# Altium footprint library Connector_PinSocket_2.54mm.PcbLib: 278 footprints (part 9 of 18)
Each footprint in its own frame and in the unit in brackets; x right, y up, seen from the top. Pads: shape width x height; smd on the part's side, far side on the other; paste and mask are expansions set on the pad; w line width, h text height; cw(c..) or ccw(c..) is an arc to the next point about the centre after c.
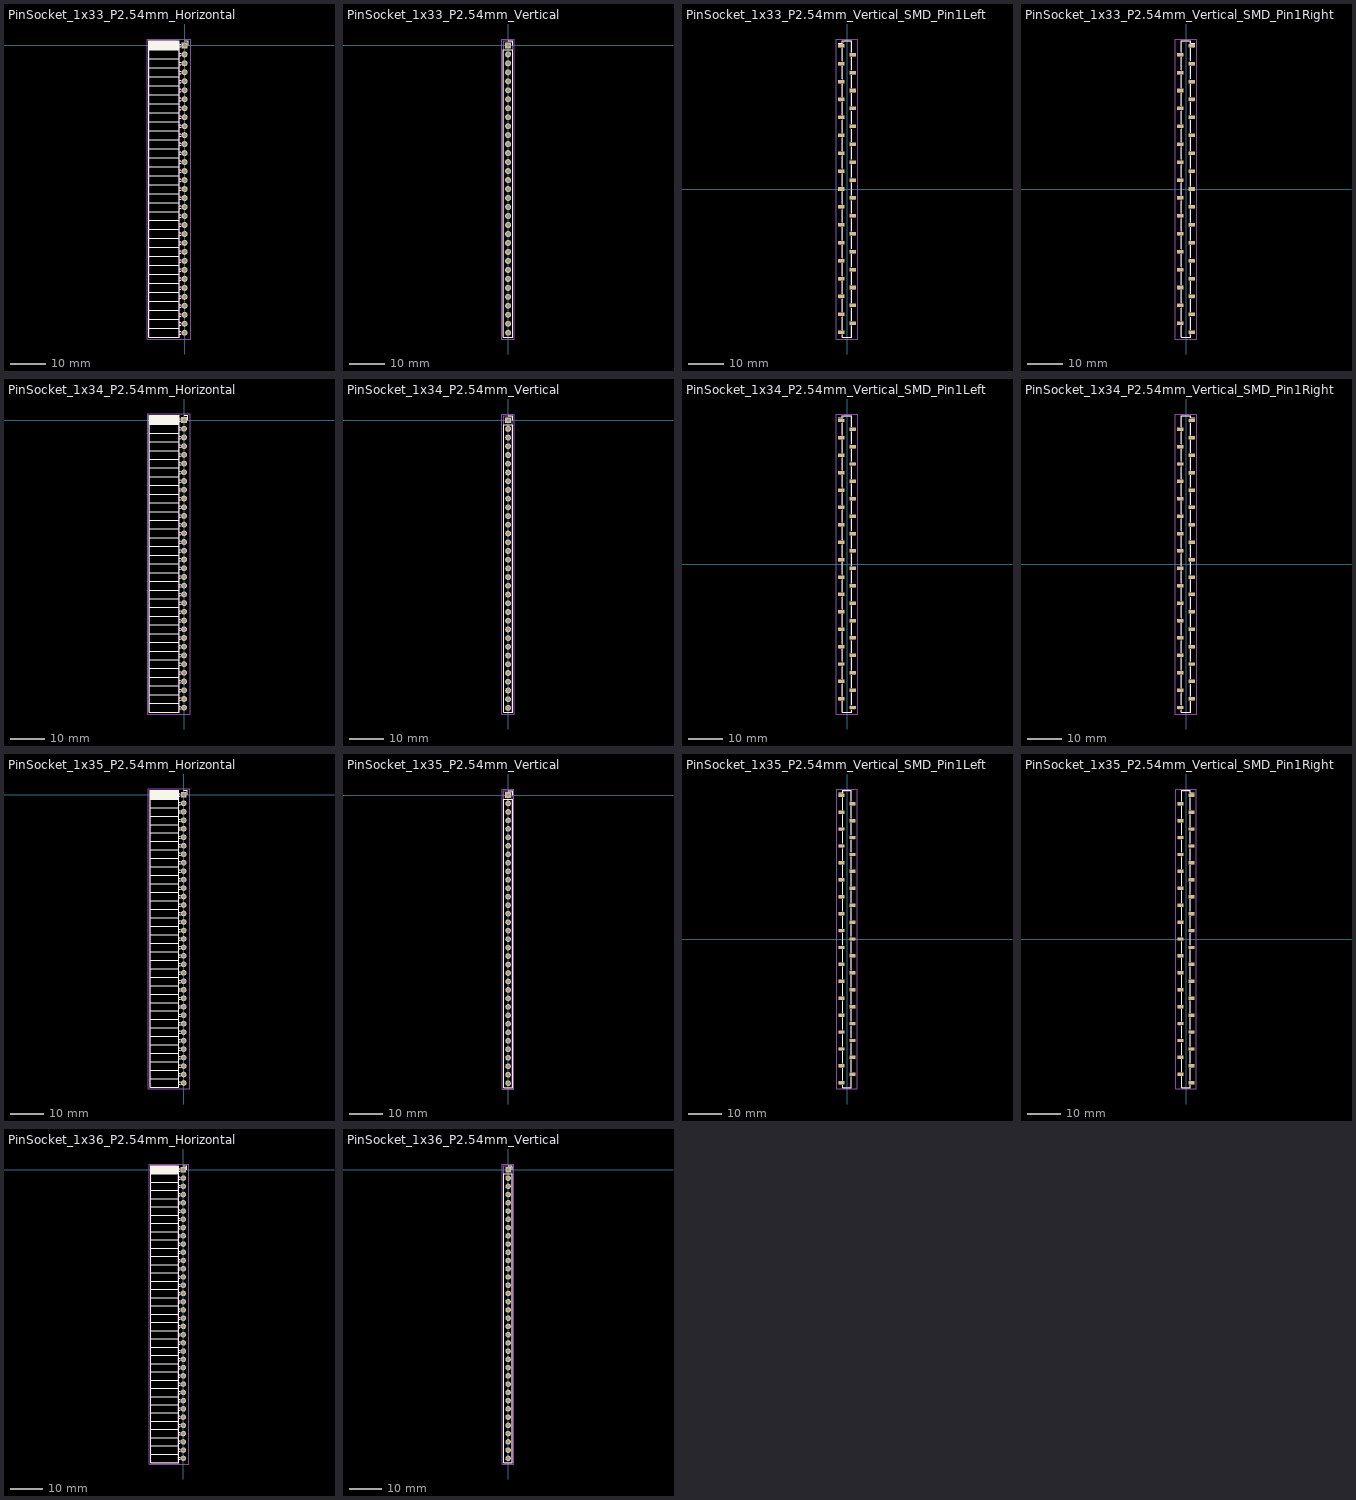
[diagram p8: the footprints below, top view; thin cyan lines are the x and y axes]

## PinSocket_1x33_P2.54mm_Horizontal [mm]
pads (33):
  rect 1.7x1.7 hole 1: 1(0,0)
  round 1.7 hole 1: 2(0,-2.54) 3(0,-5.08) 4(0,-7.62) 5(0,-10.16) 6(0,-12.7) 7(0,-15.24) 8(0,-17.78) 9(0,-20.32) 10(0,-22.86) 11(0,-25.4) 12(0,-27.94) 13(0,-30.48) 14(0,-33.02) 15(0,-35.56) 16(0,-38.1) 17(0,-40.64) 18(0,-43.18) 19(0,-45.72) 20(0,-48.26) 21(0,-50.8) 22(0,-53.34) 23(0,-55.88) 24(0,-58.42) 25(0,-60.96) 26(0,-63.5) 27(0,-66.04) 28(0,-68.58) 29(0,-71.12) 30(0,-73.66) 31(0,-76.2) 32(0,-78.74) 33(0,-81.28)
F.SilkS:
  lines w0.254: -10.09,-80.01 -1.46,-80.01 ; -10.09,-77.47 -1.46,-77.47 ; -10.09,-74.93 -1.46,-74.93 ; -10.09,-72.39 -1.46,-72.39 ; -10.09,-69.85 -1.46,-69.85 ; -10.09,-67.31 -1.46,-67.31 ; -10.09,-64.77 -1.46,-64.77 ; -10.09,-62.23 -1.46,-62.23 ; -10.09,-59.69 -1.46,-59.69 ; -10.09,-57.15 -1.46,-57.15 ; -10.09,-54.61 -1.46,-54.61 ; -10.09,-52.07 -1.46,-52.07 ; -10.09,-49.53 -1.46,-49.53 ; -10.09,-46.99 -1.46,-46.99 ; -10.09,-44.45 -1.46,-44.45 ; -10.09,-41.91 -1.46,-41.91 ; -10.09,-39.37 -1.46,-39.37 ; -10.09,-36.83 -1.46,-36.83 ; -10.09,-34.29 -1.46,-34.29 ; -10.09,-31.75 -1.46,-31.75 ; -10.09,-29.21 -1.46,-29.21 ; -10.09,-26.67 -1.46,-26.67 ; -10.09,-24.13 -1.46,-24.13 ; -10.09,-21.59 -1.46,-21.59 ; -10.09,-19.05 -1.46,-19.05 ; -10.09,-16.51 -1.46,-16.51 ; -10.09,-13.97 -1.46,-13.97 ; -10.09,-11.43 -1.46,-11.43 ; -10.09,-8.89 -1.46,-8.89 ; -10.09,-6.35 -1.46,-6.35 ; -10.09,-3.81 -1.46,-3.81 ; -10.09,-1.27 -1.46,-1.27 ; -10.09,-1.152 -1.46,-1.152 ; -10.09,-1.034 -1.46,-1.034 ; -10.09,-0.916 -1.46,-0.916 ; -10.09,-0.798 -1.46,-0.798 ; -10.09,-0.68 -1.46,-0.68 ; -10.09,-0.561 -1.46,-0.561 ; -10.09,-0.443 -1.46,-0.443 ; -10.09,-0.325 -1.46,-0.325 ; -10.09,-0.207 -1.46,-0.207 ; -10.09,-0.089 -1.46,-0.089 ; -10.09,0.029 -1.46,0.029 ; -10.09,0.147 -1.46,0.147 ; -10.09,0.265 -1.46,0.265 ; -10.09,0.383 -1.46,0.383 ; -10.09,0.501 -1.46,0.501 ; -10.09,0.62 -1.46,0.62 ; -10.09,0.738 -1.46,0.738 ; -10.09,0.856 -1.46,0.856 ; -10.09,0.974 -1.46,0.974 ; -10.09,1.092 -1.46,1.092 ; -10.09,1.21 -1.46,1.21 ; -1.46,-81.64 -1.05,-81.64 ; -1.46,-80.92 -1.05,-80.92 ; -1.46,-79.1 -1.05,-79.1 ; -1.46,-78.38 -1.05,-78.38 ; -1.46,-76.56 -1.05,-76.56 ; -1.46,-75.84 -1.05,-75.84 ; -1.46,-74.02 -1.05,-74.02 ; -1.46,-73.3 -1.05,-73.3 ; -1.46,-71.48 -1.05,-71.48 ; -1.46,-70.76 -1.05,-70.76 ; -1.46,-68.94 -1.05,-68.94 ; -1.46,-68.22 -1.05,-68.22 ; -1.46,-66.4 -1.05,-66.4 ; -1.46,-65.68 -1.05,-65.68 ; -1.46,-63.86 -1.05,-63.86 ; -1.46,-63.14 -1.05,-63.14 ; -1.46,-61.32 -1.05,-61.32 ; -1.46,-60.6 -1.05,-60.6 ; -1.46,-58.78 -1.05,-58.78 ; -1.46,-58.06 -1.05,-58.06 ; -1.46,-56.24 -1.05,-56.24 ; -1.46,-55.52 -1.05,-55.52 ; -1.46,-53.7 -1.05,-53.7 ; -1.46,-52.98 -1.05,-52.98 ; -1.46,-51.16 -1.05,-51.16 ; -1.46,-50.44 -1.05,-50.44 ; -1.46,-48.62 -1.05,-48.62 ; -1.46,-47.9 -1.05,-47.9 ; -1.46,-46.08 -1.05,-46.08 ; -1.46,-45.36 -1.05,-45.36 ; -1.46,-43.54 -1.05,-43.54 ; -1.46,-42.82 -1.05,-42.82 ; -1.46,-41 -1.05,-41 ; -1.46,-40.28 -1.05,-40.28 ; -1.46,-38.46 -1.05,-38.46 ; -1.46,-37.74 -1.05,-37.74 ; -1.46,-35.92 -1.05,-35.92 ; -1.46,-35.2 -1.05,-35.2 ; -1.46,-33.38 -1.05,-33.38 ; -1.46,-32.66 -1.05,-32.66 ; -1.46,-30.84 -1.05,-30.84 ; -1.46,-30.12 -1.05,-30.12 ; -1.46,-28.3 -1.05,-28.3 ; -1.46,-27.58 -1.05,-27.58 ; -1.46,-25.76 -1.05,-25.76 ; -1.46,-25.04 -1.05,-25.04 ; -1.46,-23.22 -1.05,-23.22 ; -1.46,-22.5 -1.05,-22.5 ; -1.46,-20.68 -1.05,-20.68 ; -1.46,-19.96 -1.05,-19.96 ; -1.46,-18.14 -1.05,-18.14 ; -1.46,-17.42 -1.05,-17.42 ; -1.46,-15.6 -1.05,-15.6 ; -1.46,-14.88 -1.05,-14.88 ; -1.46,-13.06 -1.05,-13.06 ; -1.46,-12.34 -1.05,-12.34 ; -1.46,-10.52 -1.05,-10.52 ; -1.46,-9.8 -1.05,-9.8 ; -1.46,-7.98 -1.05,-7.98 ; -1.46,-7.26 -1.05,-7.26 ; -1.46,-5.44 -1.05,-5.44 ; -1.46,-4.72 -1.05,-4.72 ; -1.46,-2.9 -1.05,-2.9 ; -1.46,-2.18 -1.05,-2.18 ; -1.46,-0.36 -1.11,-0.36 ; -1.46,0.36 -1.11,0.36 ; 0,1.33 1.11,1.33 1.11,0 ; -10.09,-82.61 -1.46,-82.61 -1.46,1.33 -10.09,1.33 -10.09,-82.61
Top Assembly:
  lines w0.254: -1.52,-81.58 0,-81.58 0,-80.98 -1.52,-80.98 ; -1.52,-79.04 0,-79.04 0,-78.44 -1.52,-78.44 ; -1.52,-76.5 0,-76.5 0,-75.9 -1.52,-75.9 ; -1.52,-73.96 0,-73.96 0,-73.36 -1.52,-73.36 ; -1.52,-71.42 0,-71.42 0,-70.82 -1.52,-70.82 ; -1.52,-68.88 0,-68.88 0,-68.28 -1.52,-68.28 ; -1.52,-66.34 0,-66.34 0,-65.74 -1.52,-65.74 ; -1.52,-63.8 0,-63.8 0,-63.2 -1.52,-63.2 ; -1.52,-61.26 0,-61.26 0,-60.66 -1.52,-60.66 ; -1.52,-58.72 0,-58.72 0,-58.12 -1.52,-58.12 ; -1.52,-56.18 0,-56.18 0,-55.58 -1.52,-55.58 ; -1.52,-53.64 0,-53.64 0,-53.04 -1.52,-53.04 ; -1.52,-51.1 0,-51.1 0,-50.5 -1.52,-50.5 ; -1.52,-48.56 0,-48.56 0,-47.96 -1.52,-47.96 ; -1.52,-46.02 0,-46.02 0,-45.42 -1.52,-45.42 ; -1.52,-43.48 0,-43.48 0,-42.88 -1.52,-42.88 ; -1.52,-40.94 0,-40.94 0,-40.34 -1.52,-40.34 ; -1.52,-38.4 0,-38.4 0,-37.8 -1.52,-37.8 ; -1.52,-35.86 0,-35.86 0,-35.26 -1.52,-35.26 ; -1.52,-33.32 0,-33.32 0,-32.72 -1.52,-32.72 ; -1.52,-30.78 0,-30.78 0,-30.18 -1.52,-30.18 ; -1.52,-28.24 0,-28.24 0,-27.64 -1.52,-27.64 ; -1.52,-25.7 0,-25.7 0,-25.1 -1.52,-25.1 ; -1.52,-23.16 0,-23.16 0,-22.56 -1.52,-22.56 ; -1.52,-20.62 0,-20.62 0,-20.02 -1.52,-20.02 ; -1.52,-18.08 0,-18.08 0,-17.48 -1.52,-17.48 ; -1.52,-15.54 0,-15.54 0,-14.94 -1.52,-14.94 ; -1.52,-13 0,-13 0,-12.4 -1.52,-12.4 ; -1.52,-10.46 0,-10.46 0,-9.86 -1.52,-9.86 ; -1.52,-7.92 0,-7.92 0,-7.32 -1.52,-7.32 ; -1.52,-5.38 0,-5.38 0,-4.78 -1.52,-4.78 ; -1.52,-2.84 0,-2.84 0,-2.24 -1.52,-2.24 ; -1.52,-0.3 0,-0.3 0,0.3 -1.52,0.3 ; -1.52,0.3 -1.52,-82.55 -10.03,-82.55 -10.03,1.27 -2.49,1.27 -1.52,0.3
  text "'.Designator'" at -4.935,-44.687 h1
Top Courtyard:
  lines w0.254: -10.55,-83.05 1.75,-83.05 1.75,1.8 -10.55,1.8 -10.55,-83.05
Top Designator:
  text ".Designator" at -12.018,-41.133 h1.52

## PinSocket_1x33_P2.54mm_Vertical [mm]
pads (33):
  rect 1.7x1.7 hole 1: 1(0,0)
  round 1.7 hole 1: 2(0,-2.54) 3(0,-5.08) 4(0,-7.62) 5(0,-10.16) 6(0,-12.7) 7(0,-15.24) 8(0,-17.78) 9(0,-20.32) 10(0,-22.86) 11(0,-25.4) 12(0,-27.94) 13(0,-30.48) 14(0,-33.02) 15(0,-35.56) 16(0,-38.1) 17(0,-40.64) 18(0,-43.18) 19(0,-45.72) 20(0,-48.26) 21(0,-50.8) 22(0,-53.34) 23(0,-55.88) 24(0,-58.42) 25(0,-60.96) 26(0,-63.5) 27(0,-66.04) 28(0,-68.58) 29(0,-71.12) 30(0,-73.66) 31(0,-76.2) 32(0,-78.74) 33(0,-81.28)
F.SilkS:
  lines w0.254: 0,1.33 1.33,1.33 1.33,0 ; -1.33,-82.61 1.33,-82.61 1.33,-1.27 -1.33,-1.27 -1.33,-82.61
Top Assembly:
  lines w0.254: -1.27,-82.55 1.27,-82.55 1.27,0.635 0.635,1.27 -1.27,1.27 -1.27,-82.55
  text "'.Designator'" at 0.84,-44.687 h1
Top Courtyard:
  lines w0.254: -1.8,-83.05 1.75,-83.05 1.75,1.8 -1.8,1.8 -1.8,-83.05
Top Designator:
  text ".Designator" at -7.643,-41.133 h1.52

## PinSocket_1x33_P2.54mm_Vertical_SMD_Pin1Left [mm]
pads (33):
  rect 1.9x1 smd: 1(-1.65,40.64) 2(1.65,38.1) 3(-1.65,35.56) 4(1.65,33.02) 5(-1.65,30.48) 6(1.65,27.94) 7(-1.65,25.4) 8(1.65,22.86) 9(-1.65,20.32) 10(1.65,17.78) 11(-1.65,15.24) 12(1.65,12.7) 13(-1.65,10.16) 14(1.65,7.62) 15(-1.65,5.08) 16(1.65,2.54) 17(-1.65,0) 18(1.65,-2.54) 19(-1.65,-5.08) 20(1.65,-7.62) 21(-1.65,-10.16) 22(1.65,-12.7) 23(-1.65,-15.24) 24(1.65,-17.78) 25(-1.65,-20.32) 26(1.65,-22.86) 27(-1.65,-25.4) 28(1.65,-27.94) 29(-1.65,-30.48) 30(1.65,-33.02) 31(-1.65,-35.56) 32(1.65,-38.1) 33(-1.65,-40.64)
F.SilkS:
  lines w0.254: -2.54,41.4 -1.33,41.4 -1.33,42.07 1.33,42.07 1.33,38.86 ; -1.33,-41.4 -1.33,-42.07 1.33,-42.07 1.33,-38.86 ; -1.33,-39.88 -1.33,-36.32 ; -1.33,-34.8 -1.33,-31.24 ; -1.33,-29.72 -1.33,-26.16 ; -1.33,-24.64 -1.33,-21.08 ; -1.33,-19.56 -1.33,-16 ; -1.33,-14.48 -1.33,-10.92 ; -1.33,-9.4 -1.33,-5.84 ; -1.33,-4.32 -1.33,-0.76 ; -1.33,0.76 -1.33,4.32 ; -1.33,5.84 -1.33,9.4 ; -1.33,10.92 -1.33,14.48 ; -1.33,16 -1.33,19.56 ; -1.33,21.08 -1.33,24.64 ; -1.33,26.16 -1.33,29.72 ; -1.33,31.24 -1.33,34.8 ; -1.33,36.32 -1.33,39.88 ; 1.33,-37.34 1.33,-33.78 ; 1.33,-32.26 1.33,-28.7 ; 1.33,-27.18 1.33,-23.62 ; 1.33,-22.1 1.33,-18.54 ; 1.33,-17.02 1.33,-13.46 ; 1.33,-11.94 1.33,-8.38 ; 1.33,-6.86 1.33,-3.3 ; 1.33,-1.78 1.33,1.78 ; 1.33,3.3 1.33,6.86 ; 1.33,8.38 1.33,11.94 ; 1.33,13.46 1.33,17.02 ; 1.33,18.54 1.33,22.1 ; 1.33,23.62 1.33,27.18 ; 1.33,28.7 1.33,32.26 ; 1.33,33.78 1.33,37.34
Top Assembly:
  lines w0.254: -1.27,-40.94 -2.27,-40.94 -2.27,-40.34 -1.27,-40.34 ; -1.27,-35.86 -2.27,-35.86 -2.27,-35.26 -1.27,-35.26 ; -1.27,-30.78 -2.27,-30.78 -2.27,-30.18 -1.27,-30.18 ; -1.27,-25.7 -2.27,-25.7 -2.27,-25.1 -1.27,-25.1 ; -1.27,-20.62 -2.27,-20.62 -2.27,-20.02 -1.27,-20.02 ; -1.27,-15.54 -2.27,-15.54 -2.27,-14.94 -1.27,-14.94 ; -1.27,-10.46 -2.27,-10.46 -2.27,-9.86 -1.27,-9.86 ; -1.27,-5.38 -2.27,-5.38 -2.27,-4.78 -1.27,-4.78 ; -1.27,-0.3 -2.27,-0.3 -2.27,0.3 -1.27,0.3 ; -1.27,4.78 -2.27,4.78 -2.27,5.38 -1.27,5.38 ; -1.27,9.86 -2.27,9.86 -2.27,10.46 -1.27,10.46 ; -1.27,14.94 -2.27,14.94 -2.27,15.54 -1.27,15.54 ; -1.27,20.02 -2.27,20.02 -2.27,20.62 -1.27,20.62 ; -1.27,25.1 -2.27,25.1 -2.27,25.7 -1.27,25.7 ; -1.27,30.18 -2.27,30.18 -2.27,30.78 -1.27,30.78 ; -1.27,35.26 -2.27,35.26 -2.27,35.86 -1.27,35.86 ; -1.27,40.34 -2.27,40.34 -2.27,40.94 -1.27,40.94 ; 1.27,-38.4 2.27,-38.4 2.27,-37.8 1.27,-37.8 ; 1.27,-33.32 2.27,-33.32 2.27,-32.72 1.27,-32.72 ; 1.27,-28.24 2.27,-28.24 2.27,-27.64 1.27,-27.64 ; 1.27,-23.16 2.27,-23.16 2.27,-22.56 1.27,-22.56 ; 1.27,-18.08 2.27,-18.08 2.27,-17.48 1.27,-17.48 ; 1.27,-13 2.27,-13 2.27,-12.4 1.27,-12.4 ; 1.27,-7.92 2.27,-7.92 2.27,-7.32 1.27,-7.32 ; 1.27,-2.84 2.27,-2.84 2.27,-2.24 1.27,-2.24 ; 1.27,2.24 2.27,2.24 2.27,2.84 1.27,2.84 ; 1.27,7.32 2.27,7.32 2.27,7.92 1.27,7.92 ; 1.27,12.4 2.27,12.4 2.27,13 1.27,13 ; 1.27,17.48 2.27,17.48 2.27,18.08 1.27,18.08 ; 1.27,22.56 2.27,22.56 2.27,23.16 1.27,23.16 ; 1.27,27.64 2.27,27.64 2.27,28.24 1.27,28.24 ; 1.27,32.72 2.27,32.72 2.27,33.32 1.27,33.32 ; 1.27,37.8 2.27,37.8 2.27,38.4 1.27,38.4 ; -1.27,-42.01 1.27,-42.01 1.27,42.01 -0.635,42.01 -1.27,41.375 -1.27,-42.01
  text "'.Designator'" at 0.84,-4.047 h1
Top Courtyard:
  lines w0.254: -3.1,-42.55 3.1,-42.55 3.1,42.55 -3.1,42.55 -3.1,-42.55
Top Designator:
  text ".Designator" at -7.618,-0.508 h1.52

## PinSocket_1x33_P2.54mm_Vertical_SMD_Pin1Right [mm]
pads (33):
  rect 1.9x1 smd: 1(1.65,40.64) 2(-1.65,38.1) 3(1.65,35.56) 4(-1.65,33.02) 5(1.65,30.48) 6(-1.65,27.94) 7(1.65,25.4) 8(-1.65,22.86) 9(1.65,20.32) 10(-1.65,17.78) 11(1.65,15.24) 12(-1.65,12.7) 13(1.65,10.16) 14(-1.65,7.62) 15(1.65,5.08) 16(-1.65,2.54) 17(1.65,0) 18(-1.65,-2.54) 19(1.65,-5.08) 20(-1.65,-7.62) 21(1.65,-10.16) 22(-1.65,-12.7) 23(1.65,-15.24) 24(-1.65,-17.78) 25(1.65,-20.32) 26(-1.65,-22.86) 27(1.65,-25.4) 28(-1.65,-27.94) 29(1.65,-30.48) 30(-1.65,-33.02) 31(1.65,-35.56) 32(-1.65,-38.1) 33(1.65,-40.64)
F.SilkS:
  lines w0.254: -1.33,-38.86 -1.33,-42.07 1.33,-42.07 1.33,-41.4 ; -1.33,-37.34 -1.33,-33.78 ; -1.33,-32.26 -1.33,-28.7 ; -1.33,-27.18 -1.33,-23.62 ; -1.33,-22.1 -1.33,-18.54 ; -1.33,-17.02 -1.33,-13.46 ; -1.33,-11.94 -1.33,-8.38 ; -1.33,-6.86 -1.33,-3.3 ; -1.33,-1.78 -1.33,1.78 ; -1.33,3.3 -1.33,6.86 ; -1.33,8.38 -1.33,11.94 ; -1.33,13.46 -1.33,17.02 ; -1.33,18.54 -1.33,22.1 ; -1.33,23.62 -1.33,27.18 ; -1.33,28.7 -1.33,32.26 ; -1.33,33.78 -1.33,37.34 ; -1.33,38.86 -1.33,42.07 1.33,42.07 1.33,41.4 2.54,41.4 ; 1.33,-39.88 1.33,-36.32 ; 1.33,-34.8 1.33,-31.24 ; 1.33,-29.72 1.33,-26.16 ; 1.33,-24.64 1.33,-21.08 ; 1.33,-19.56 1.33,-16 ; 1.33,-14.48 1.33,-10.92 ; 1.33,-9.4 1.33,-5.84 ; 1.33,-4.32 1.33,-0.76 ; 1.33,0.76 1.33,4.32 ; 1.33,5.84 1.33,9.4 ; 1.33,10.92 1.33,14.48 ; 1.33,16 1.33,19.56 ; 1.33,21.08 1.33,24.64 ; 1.33,26.16 1.33,29.72 ; 1.33,31.24 1.33,34.8 ; 1.33,36.32 1.33,39.88
Top Assembly:
  lines w0.254: -1.27,-38.4 -2.27,-38.4 -2.27,-37.8 -1.27,-37.8 ; -1.27,-33.32 -2.27,-33.32 -2.27,-32.72 -1.27,-32.72 ; -1.27,-28.24 -2.27,-28.24 -2.27,-27.64 -1.27,-27.64 ; -1.27,-23.16 -2.27,-23.16 -2.27,-22.56 -1.27,-22.56 ; -1.27,-18.08 -2.27,-18.08 -2.27,-17.48 -1.27,-17.48 ; -1.27,-13 -2.27,-13 -2.27,-12.4 -1.27,-12.4 ; -1.27,-7.92 -2.27,-7.92 -2.27,-7.32 -1.27,-7.32 ; -1.27,-2.84 -2.27,-2.84 -2.27,-2.24 -1.27,-2.24 ; -1.27,2.24 -2.27,2.24 -2.27,2.84 -1.27,2.84 ; -1.27,7.32 -2.27,7.32 -2.27,7.92 -1.27,7.92 ; -1.27,12.4 -2.27,12.4 -2.27,13 -1.27,13 ; -1.27,17.48 -2.27,17.48 -2.27,18.08 -1.27,18.08 ; -1.27,22.56 -2.27,22.56 -2.27,23.16 -1.27,23.16 ; -1.27,27.64 -2.27,27.64 -2.27,28.24 -1.27,28.24 ; -1.27,32.72 -2.27,32.72 -2.27,33.32 -1.27,33.32 ; -1.27,37.8 -2.27,37.8 -2.27,38.4 -1.27,38.4 ; 1.27,-40.94 2.27,-40.94 2.27,-40.34 1.27,-40.34 ; 1.27,-35.86 2.27,-35.86 2.27,-35.26 1.27,-35.26 ; 1.27,-30.78 2.27,-30.78 2.27,-30.18 1.27,-30.18 ; 1.27,-25.7 2.27,-25.7 2.27,-25.1 1.27,-25.1 ; 1.27,-20.62 2.27,-20.62 2.27,-20.02 1.27,-20.02 ; 1.27,-15.54 2.27,-15.54 2.27,-14.94 1.27,-14.94 ; 1.27,-10.46 2.27,-10.46 2.27,-9.86 1.27,-9.86 ; 1.27,-5.38 2.27,-5.38 2.27,-4.78 1.27,-4.78 ; 1.27,-0.3 2.27,-0.3 2.27,0.3 1.27,0.3 ; 1.27,4.78 2.27,4.78 2.27,5.38 1.27,5.38 ; 1.27,9.86 2.27,9.86 2.27,10.46 1.27,10.46 ; 1.27,14.94 2.27,14.94 2.27,15.54 1.27,15.54 ; 1.27,20.02 2.27,20.02 2.27,20.62 1.27,20.62 ; 1.27,25.1 2.27,25.1 2.27,25.7 1.27,25.7 ; 1.27,30.18 2.27,30.18 2.27,30.78 1.27,30.78 ; 1.27,35.26 2.27,35.26 2.27,35.86 1.27,35.86 ; 1.27,40.34 2.27,40.34 2.27,40.94 1.27,40.94 ; -1.27,-42.01 1.27,-42.01 1.27,41.375 0.635,42.01 -1.27,42.01 -1.27,-42.01
  text "'.Designator'" at 0.84,-4.047 h1
Top Courtyard:
  lines w0.254: -3.1,-42.55 3.1,-42.55 3.1,42.55 -3.1,42.55 -3.1,-42.55
Top Designator:
  text ".Designator" at -7.618,-0.508 h1.52

## PinSocket_1x34_P2.54mm_Horizontal [mm]
pads (34):
  rect 1.7x1.7 hole 1: 1(0,0)
  round 1.7 hole 1: 2(0,-2.54) 3(0,-5.08) 4(0,-7.62) 5(0,-10.16) 6(0,-12.7) 7(0,-15.24) 8(0,-17.78) 9(0,-20.32) 10(0,-22.86) 11(0,-25.4) 12(0,-27.94) 13(0,-30.48) 14(0,-33.02) 15(0,-35.56) 16(0,-38.1) 17(0,-40.64) 18(0,-43.18) 19(0,-45.72) 20(0,-48.26) 21(0,-50.8) 22(0,-53.34) 23(0,-55.88) 24(0,-58.42) 25(0,-60.96) 26(0,-63.5) 27(0,-66.04) 28(0,-68.58) 29(0,-71.12) 30(0,-73.66) 31(0,-76.2) 32(0,-78.74) 33(0,-81.28) 34(0,-83.82)
F.SilkS:
  lines w0.254: -10.09,-82.55 -1.46,-82.55 ; -10.09,-80.01 -1.46,-80.01 ; -10.09,-77.47 -1.46,-77.47 ; -10.09,-74.93 -1.46,-74.93 ; -10.09,-72.39 -1.46,-72.39 ; -10.09,-69.85 -1.46,-69.85 ; -10.09,-67.31 -1.46,-67.31 ; -10.09,-64.77 -1.46,-64.77 ; -10.09,-62.23 -1.46,-62.23 ; -10.09,-59.69 -1.46,-59.69 ; -10.09,-57.15 -1.46,-57.15 ; -10.09,-54.61 -1.46,-54.61 ; -10.09,-52.07 -1.46,-52.07 ; -10.09,-49.53 -1.46,-49.53 ; -10.09,-46.99 -1.46,-46.99 ; -10.09,-44.45 -1.46,-44.45 ; -10.09,-41.91 -1.46,-41.91 ; -10.09,-39.37 -1.46,-39.37 ; -10.09,-36.83 -1.46,-36.83 ; -10.09,-34.29 -1.46,-34.29 ; -10.09,-31.75 -1.46,-31.75 ; -10.09,-29.21 -1.46,-29.21 ; -10.09,-26.67 -1.46,-26.67 ; -10.09,-24.13 -1.46,-24.13 ; -10.09,-21.59 -1.46,-21.59 ; -10.09,-19.05 -1.46,-19.05 ; -10.09,-16.51 -1.46,-16.51 ; -10.09,-13.97 -1.46,-13.97 ; -10.09,-11.43 -1.46,-11.43 ; -10.09,-8.89 -1.46,-8.89 ; -10.09,-6.35 -1.46,-6.35 ; -10.09,-3.81 -1.46,-3.81 ; -10.09,-1.27 -1.46,-1.27 ; -10.09,-1.152 -1.46,-1.152 ; -10.09,-1.034 -1.46,-1.034 ; -10.09,-0.916 -1.46,-0.916 ; -10.09,-0.798 -1.46,-0.798 ; -10.09,-0.68 -1.46,-0.68 ; -10.09,-0.561 -1.46,-0.561 ; -10.09,-0.443 -1.46,-0.443 ; -10.09,-0.325 -1.46,-0.325 ; -10.09,-0.207 -1.46,-0.207 ; -10.09,-0.089 -1.46,-0.089 ; -10.09,0.029 -1.46,0.029 ; -10.09,0.147 -1.46,0.147 ; -10.09,0.265 -1.46,0.265 ; -10.09,0.383 -1.46,0.383 ; -10.09,0.501 -1.46,0.501 ; -10.09,0.62 -1.46,0.62 ; -10.09,0.738 -1.46,0.738 ; -10.09,0.856 -1.46,0.856 ; -10.09,0.974 -1.46,0.974 ; -10.09,1.092 -1.46,1.092 ; -10.09,1.21 -1.46,1.21 ; -1.46,-84.18 -1.05,-84.18 ; -1.46,-83.46 -1.05,-83.46 ; -1.46,-81.64 -1.05,-81.64 ; -1.46,-80.92 -1.05,-80.92 ; -1.46,-79.1 -1.05,-79.1 ; -1.46,-78.38 -1.05,-78.38 ; -1.46,-76.56 -1.05,-76.56 ; -1.46,-75.84 -1.05,-75.84 ; -1.46,-74.02 -1.05,-74.02 ; -1.46,-73.3 -1.05,-73.3 ; -1.46,-71.48 -1.05,-71.48 ; -1.46,-70.76 -1.05,-70.76 ; -1.46,-68.94 -1.05,-68.94 ; -1.46,-68.22 -1.05,-68.22 ; -1.46,-66.4 -1.05,-66.4 ; -1.46,-65.68 -1.05,-65.68 ; -1.46,-63.86 -1.05,-63.86 ; -1.46,-63.14 -1.05,-63.14 ; -1.46,-61.32 -1.05,-61.32 ; -1.46,-60.6 -1.05,-60.6 ; -1.46,-58.78 -1.05,-58.78 ; -1.46,-58.06 -1.05,-58.06 ; -1.46,-56.24 -1.05,-56.24 ; -1.46,-55.52 -1.05,-55.52 ; -1.46,-53.7 -1.05,-53.7 ; -1.46,-52.98 -1.05,-52.98 ; -1.46,-51.16 -1.05,-51.16 ; -1.46,-50.44 -1.05,-50.44 ; -1.46,-48.62 -1.05,-48.62 ; -1.46,-47.9 -1.05,-47.9 ; -1.46,-46.08 -1.05,-46.08 ; -1.46,-45.36 -1.05,-45.36 ; -1.46,-43.54 -1.05,-43.54 ; -1.46,-42.82 -1.05,-42.82 ; -1.46,-41 -1.05,-41 ; -1.46,-40.28 -1.05,-40.28 ; -1.46,-38.46 -1.05,-38.46 ; -1.46,-37.74 -1.05,-37.74 ; -1.46,-35.92 -1.05,-35.92 ; -1.46,-35.2 -1.05,-35.2 ; -1.46,-33.38 -1.05,-33.38 ; -1.46,-32.66 -1.05,-32.66 ; -1.46,-30.84 -1.05,-30.84 ; -1.46,-30.12 -1.05,-30.12 ; -1.46,-28.3 -1.05,-28.3 ; -1.46,-27.58 -1.05,-27.58 ; -1.46,-25.76 -1.05,-25.76 ; -1.46,-25.04 -1.05,-25.04 ; -1.46,-23.22 -1.05,-23.22 ; -1.46,-22.5 -1.05,-22.5 ; -1.46,-20.68 -1.05,-20.68 ; -1.46,-19.96 -1.05,-19.96 ; -1.46,-18.14 -1.05,-18.14 ; -1.46,-17.42 -1.05,-17.42 ; -1.46,-15.6 -1.05,-15.6 ; -1.46,-14.88 -1.05,-14.88 ; -1.46,-13.06 -1.05,-13.06 ; -1.46,-12.34 -1.05,-12.34 ; -1.46,-10.52 -1.05,-10.52 ; -1.46,-9.8 -1.05,-9.8 ; -1.46,-7.98 -1.05,-7.98 ; -1.46,-7.26 -1.05,-7.26 ; -1.46,-5.44 -1.05,-5.44 ; -1.46,-4.72 -1.05,-4.72 ; -1.46,-2.9 -1.05,-2.9 ; -1.46,-2.18 -1.05,-2.18 ; -1.46,-0.36 -1.11,-0.36 ; -1.46,0.36 -1.11,0.36 ; 0,1.33 1.11,1.33 1.11,0 ; -10.09,-85.15 -1.46,-85.15 -1.46,1.33 -10.09,1.33 -10.09,-85.15
Top Assembly:
  lines w0.254: -1.52,-84.12 0,-84.12 0,-83.52 -1.52,-83.52 ; -1.52,-81.58 0,-81.58 0,-80.98 -1.52,-80.98 ; -1.52,-79.04 0,-79.04 0,-78.44 -1.52,-78.44 ; -1.52,-76.5 0,-76.5 0,-75.9 -1.52,-75.9 ; -1.52,-73.96 0,-73.96 0,-73.36 -1.52,-73.36 ; -1.52,-71.42 0,-71.42 0,-70.82 -1.52,-70.82 ; -1.52,-68.88 0,-68.88 0,-68.28 -1.52,-68.28 ; -1.52,-66.34 0,-66.34 0,-65.74 -1.52,-65.74 ; -1.52,-63.8 0,-63.8 0,-63.2 -1.52,-63.2 ; -1.52,-61.26 0,-61.26 0,-60.66 -1.52,-60.66 ; -1.52,-58.72 0,-58.72 0,-58.12 -1.52,-58.12 ; -1.52,-56.18 0,-56.18 0,-55.58 -1.52,-55.58 ; -1.52,-53.64 0,-53.64 0,-53.04 -1.52,-53.04 ; -1.52,-51.1 0,-51.1 0,-50.5 -1.52,-50.5 ; -1.52,-48.56 0,-48.56 0,-47.96 -1.52,-47.96 ; -1.52,-46.02 0,-46.02 0,-45.42 -1.52,-45.42 ; -1.52,-43.48 0,-43.48 0,-42.88 -1.52,-42.88 ; -1.52,-40.94 0,-40.94 0,-40.34 -1.52,-40.34 ; -1.52,-38.4 0,-38.4 0,-37.8 -1.52,-37.8 ; -1.52,-35.86 0,-35.86 0,-35.26 -1.52,-35.26 ; -1.52,-33.32 0,-33.32 0,-32.72 -1.52,-32.72 ; -1.52,-30.78 0,-30.78 0,-30.18 -1.52,-30.18 ; -1.52,-28.24 0,-28.24 0,-27.64 -1.52,-27.64 ; -1.52,-25.7 0,-25.7 0,-25.1 -1.52,-25.1 ; -1.52,-23.16 0,-23.16 0,-22.56 -1.52,-22.56 ; -1.52,-20.62 0,-20.62 0,-20.02 -1.52,-20.02 ; -1.52,-18.08 0,-18.08 0,-17.48 -1.52,-17.48 ; -1.52,-15.54 0,-15.54 0,-14.94 -1.52,-14.94 ; -1.52,-13 0,-13 0,-12.4 -1.52,-12.4 ; -1.52,-10.46 0,-10.46 0,-9.86 -1.52,-9.86 ; -1.52,-7.92 0,-7.92 0,-7.32 -1.52,-7.32 ; -1.52,-5.38 0,-5.38 0,-4.78 -1.52,-4.78 ; -1.52,-2.84 0,-2.84 0,-2.24 -1.52,-2.24 ; -1.52,-0.3 0,-0.3 0,0.3 -1.52,0.3 ; -1.52,0.3 -1.52,-85.09 -10.03,-85.09 -10.03,1.27 -2.49,1.27 -1.52,0.3
  text "'.Designator'" at -4.935,-45.957 h1
Top Courtyard:
  lines w0.254: -10.55,-85.65 1.75,-85.65 1.75,1.75 -10.55,1.75 -10.55,-85.65
Top Designator:
  text ".Designator" at -12.018,-42.458 h1.52

## PinSocket_1x34_P2.54mm_Vertical [mm]
pads (34):
  rect 1.7x1.7 hole 1: 1(0,0)
  round 1.7 hole 1: 2(0,-2.54) 3(0,-5.08) 4(0,-7.62) 5(0,-10.16) 6(0,-12.7) 7(0,-15.24) 8(0,-17.78) 9(0,-20.32) 10(0,-22.86) 11(0,-25.4) 12(0,-27.94) 13(0,-30.48) 14(0,-33.02) 15(0,-35.56) 16(0,-38.1) 17(0,-40.64) 18(0,-43.18) 19(0,-45.72) 20(0,-48.26) 21(0,-50.8) 22(0,-53.34) 23(0,-55.88) 24(0,-58.42) 25(0,-60.96) 26(0,-63.5) 27(0,-66.04) 28(0,-68.58) 29(0,-71.12) 30(0,-73.66) 31(0,-76.2) 32(0,-78.74) 33(0,-81.28) 34(0,-83.82)
F.SilkS:
  lines w0.254: 0,1.33 1.33,1.33 1.33,0 ; -1.33,-85.15 1.33,-85.15 1.33,-1.27 -1.33,-1.27 -1.33,-85.15
Top Assembly:
  lines w0.254: -1.27,-85.09 1.27,-85.09 1.27,0.635 0.635,1.27 -1.27,1.27 -1.27,-85.09
  text "'.Designator'" at 0.84,-45.957 h1
Top Courtyard:
  lines w0.254: -1.8,-85.6 1.75,-85.6 1.75,1.8 -1.8,1.8 -1.8,-85.6
Top Designator:
  text ".Designator" at -7.643,-42.408 h1.52

## PinSocket_1x34_P2.54mm_Vertical_SMD_Pin1Left [mm]
pads (34):
  rect 1.9x1 smd: 1(-1.65,41.91) 2(1.65,39.37) 3(-1.65,36.83) 4(1.65,34.29) 5(-1.65,31.75) 6(1.65,29.21) 7(-1.65,26.67) 8(1.65,24.13) 9(-1.65,21.59) 10(1.65,19.05) 11(-1.65,16.51) 12(1.65,13.97) 13(-1.65,11.43) 14(1.65,8.89) 15(-1.65,6.35) 16(1.65,3.81) 17(-1.65,1.27) 18(1.65,-1.27) 19(-1.65,-3.81) 20(1.65,-6.35) 21(-1.65,-8.89) 22(1.65,-11.43) 23(-1.65,-13.97) 24(1.65,-16.51) 25(-1.65,-19.05) 26(1.65,-21.59) 27(-1.65,-24.13) 28(1.65,-26.67) 29(-1.65,-29.21) 30(1.65,-31.75) 31(-1.65,-34.29) 32(1.65,-36.83) 33(-1.65,-39.37) 34(1.65,-41.91)
F.SilkS:
  lines w0.254: -2.54,42.67 -1.33,42.67 -1.33,43.34 1.33,43.34 1.33,40.13 ; -1.33,-40.13 -1.33,-43.34 1.33,-43.34 1.33,-42.67 ; -1.33,-38.61 -1.33,-35.05 ; -1.33,-33.53 -1.33,-29.97 ; -1.33,-28.45 -1.33,-24.89 ; -1.33,-23.37 -1.33,-19.81 ; -1.33,-18.29 -1.33,-14.73 ; -1.33,-13.21 -1.33,-9.65 ; -1.33,-8.13 -1.33,-4.57 ; -1.33,-3.05 -1.33,0.51 ; -1.33,2.03 -1.33,5.59 ; -1.33,7.11 -1.33,10.67 ; -1.33,12.19 -1.33,15.75 ; -1.33,17.27 -1.33,20.83 ; -1.33,22.35 -1.33,25.91 ; -1.33,27.43 -1.33,30.99 ; -1.33,32.51 -1.33,36.07 ; -1.33,37.59 -1.33,41.15 ; 1.33,-41.15 1.33,-37.59 ; 1.33,-36.07 1.33,-32.51 ; 1.33,-30.99 1.33,-27.43 ; 1.33,-25.91 1.33,-22.35 ; 1.33,-20.83 1.33,-17.27 ; 1.33,-15.75 1.33,-12.19 ; 1.33,-10.67 1.33,-7.11 ; 1.33,-5.59 1.33,-2.03 ; 1.33,-0.51 1.33,3.05 ; 1.33,4.57 1.33,8.13 ; 1.33,9.65 1.33,13.21 ; 1.33,14.73 1.33,18.29 ; 1.33,19.81 1.33,23.37 ; 1.33,24.89 1.33,28.45 ; 1.33,29.97 1.33,33.53 ; 1.33,35.05 1.33,38.61
Top Assembly:
  lines w0.254: -1.27,-39.67 -2.27,-39.67 -2.27,-39.07 -1.27,-39.07 ; -1.27,-34.59 -2.27,-34.59 -2.27,-33.99 -1.27,-33.99 ; -1.27,-29.51 -2.27,-29.51 -2.27,-28.91 -1.27,-28.91 ; -1.27,-24.43 -2.27,-24.43 -2.27,-23.83 -1.27,-23.83 ; -1.27,-19.35 -2.27,-19.35 -2.27,-18.75 -1.27,-18.75 ; -1.27,-14.27 -2.27,-14.27 -2.27,-13.67 -1.27,-13.67 ; -1.27,-9.19 -2.27,-9.19 -2.27,-8.59 -1.27,-8.59 ; -1.27,-4.11 -2.27,-4.11 -2.27,-3.51 -1.27,-3.51 ; -1.27,0.97 -2.27,0.97 -2.27,1.57 -1.27,1.57 ; -1.27,6.05 -2.27,6.05 -2.27,6.65 -1.27,6.65 ; -1.27,11.13 -2.27,11.13 -2.27,11.73 -1.27,11.73 ; -1.27,16.21 -2.27,16.21 -2.27,16.81 -1.27,16.81 ; -1.27,21.29 -2.27,21.29 -2.27,21.89 -1.27,21.89 ; -1.27,26.37 -2.27,26.37 -2.27,26.97 -1.27,26.97 ; -1.27,31.45 -2.27,31.45 -2.27,32.05 -1.27,32.05 ; -1.27,36.53 -2.27,36.53 -2.27,37.13 -1.27,37.13 ; -1.27,41.61 -2.27,41.61 -2.27,42.21 -1.27,42.21 ; 1.27,-42.21 2.27,-42.21 2.27,-41.61 1.27,-41.61 ; 1.27,-37.13 2.27,-37.13 2.27,-36.53 1.27,-36.53 ; 1.27,-32.05 2.27,-32.05 2.27,-31.45 1.27,-31.45 ; 1.27,-26.97 2.27,-26.97 2.27,-26.37 1.27,-26.37 ; 1.27,-21.89 2.27,-21.89 2.27,-21.29 1.27,-21.29 ; 1.27,-16.81 2.27,-16.81 2.27,-16.21 1.27,-16.21 ; 1.27,-11.73 2.27,-11.73 2.27,-11.13 1.27,-11.13 ; 1.27,-6.65 2.27,-6.65 2.27,-6.05 1.27,-6.05 ; 1.27,-1.57 2.27,-1.57 2.27,-0.97 1.27,-0.97 ; 1.27,3.51 2.27,3.51 2.27,4.11 1.27,4.11 ; 1.27,8.59 2.27,8.59 2.27,9.19 1.27,9.19 ; 1.27,13.67 2.27,13.67 2.27,14.27 1.27,14.27 ; 1.27,18.75 2.27,18.75 2.27,19.35 1.27,19.35 ; 1.27,23.83 2.27,23.83 2.27,24.43 1.27,24.43 ; 1.27,28.91 2.27,28.91 2.27,29.51 1.27,29.51 ; 1.27,33.99 2.27,33.99 2.27,34.59 1.27,34.59 ; 1.27,39.07 2.27,39.07 2.27,39.67 1.27,39.67 ; -1.27,-43.28 1.27,-43.28 1.27,43.28 -0.635,43.28 -1.27,42.645 -1.27,-43.28
  text "'.Designator'" at 0.84,-4.047 h1
Top Courtyard:
  lines w0.254: -3.1,-43.8 3.1,-43.8 3.1,43.8 -3.1,43.8 -3.1,-43.8
Top Designator:
  text ".Designator" at -7.618,-0.508 h1.52

## PinSocket_1x34_P2.54mm_Vertical_SMD_Pin1Right [mm]
pads (34):
  rect 1.9x1 smd: 1(1.65,41.91) 2(-1.65,39.37) 3(1.65,36.83) 4(-1.65,34.29) 5(1.65,31.75) 6(-1.65,29.21) 7(1.65,26.67) 8(-1.65,24.13) 9(1.65,21.59) 10(-1.65,19.05) 11(1.65,16.51) 12(-1.65,13.97) 13(1.65,11.43) 14(-1.65,8.89) 15(1.65,6.35) 16(-1.65,3.81) 17(1.65,1.27) 18(-1.65,-1.27) 19(1.65,-3.81) 20(-1.65,-6.35) 21(1.65,-8.89) 22(-1.65,-11.43) 23(1.65,-13.97) 24(-1.65,-16.51) 25(1.65,-19.05) 26(-1.65,-21.59) 27(1.65,-24.13) 28(-1.65,-26.67) 29(1.65,-29.21) 30(-1.65,-31.75) 31(1.65,-34.29) 32(-1.65,-36.83) 33(1.65,-39.37) 34(-1.65,-41.91)
F.SilkS:
  lines w0.254: -1.33,-42.67 -1.33,-43.34 1.33,-43.34 1.33,-40.13 ; -1.33,-41.15 -1.33,-37.59 ; -1.33,-36.07 -1.33,-32.51 ; -1.33,-30.99 -1.33,-27.43 ; -1.33,-25.91 -1.33,-22.35 ; -1.33,-20.83 -1.33,-17.27 ; -1.33,-15.75 -1.33,-12.19 ; -1.33,-10.67 -1.33,-7.11 ; -1.33,-5.59 -1.33,-2.03 ; -1.33,-0.51 -1.33,3.05 ; -1.33,4.57 -1.33,8.13 ; -1.33,9.65 -1.33,13.21 ; -1.33,14.73 -1.33,18.29 ; -1.33,19.81 -1.33,23.37 ; -1.33,24.89 -1.33,28.45 ; -1.33,29.97 -1.33,33.53 ; -1.33,35.05 -1.33,38.61 ; -1.33,40.13 -1.33,43.34 1.33,43.34 1.33,42.67 2.54,42.67 ; 1.33,-38.61 1.33,-35.05 ; 1.33,-33.53 1.33,-29.97 ; 1.33,-28.45 1.33,-24.89 ; 1.33,-23.37 1.33,-19.81 ; 1.33,-18.29 1.33,-14.73 ; 1.33,-13.21 1.33,-9.65 ; 1.33,-8.13 1.33,-4.57 ; 1.33,-3.05 1.33,0.51 ; 1.33,2.03 1.33,5.59 ; 1.33,7.11 1.33,10.67 ; 1.33,12.19 1.33,15.75 ; 1.33,17.27 1.33,20.83 ; 1.33,22.35 1.33,25.91 ; 1.33,27.43 1.33,30.99 ; 1.33,32.51 1.33,36.07 ; 1.33,37.59 1.33,41.15
Top Assembly:
  lines w0.254: -1.27,-42.21 -2.27,-42.21 -2.27,-41.61 -1.27,-41.61 ; -1.27,-37.13 -2.27,-37.13 -2.27,-36.53 -1.27,-36.53 ; -1.27,-32.05 -2.27,-32.05 -2.27,-31.45 -1.27,-31.45 ; -1.27,-26.97 -2.27,-26.97 -2.27,-26.37 -1.27,-26.37 ; -1.27,-21.89 -2.27,-21.89 -2.27,-21.29 -1.27,-21.29 ; -1.27,-16.81 -2.27,-16.81 -2.27,-16.21 -1.27,-16.21 ; -1.27,-11.73 -2.27,-11.73 -2.27,-11.13 -1.27,-11.13 ; -1.27,-6.65 -2.27,-6.65 -2.27,-6.05 -1.27,-6.05 ; -1.27,-1.57 -2.27,-1.57 -2.27,-0.97 -1.27,-0.97 ; -1.27,3.51 -2.27,3.51 -2.27,4.11 -1.27,4.11 ; -1.27,8.59 -2.27,8.59 -2.27,9.19 -1.27,9.19 ; -1.27,13.67 -2.27,13.67 -2.27,14.27 -1.27,14.27 ; -1.27,18.75 -2.27,18.75 -2.27,19.35 -1.27,19.35 ; -1.27,23.83 -2.27,23.83 -2.27,24.43 -1.27,24.43 ; -1.27,28.91 -2.27,28.91 -2.27,29.51 -1.27,29.51 ; -1.27,33.99 -2.27,33.99 -2.27,34.59 -1.27,34.59 ; -1.27,39.07 -2.27,39.07 -2.27,39.67 -1.27,39.67 ; 1.27,-39.67 2.27,-39.67 2.27,-39.07 1.27,-39.07 ; 1.27,-34.59 2.27,-34.59 2.27,-33.99 1.27,-33.99 ; 1.27,-29.51 2.27,-29.51 2.27,-28.91 1.27,-28.91 ; 1.27,-24.43 2.27,-24.43 2.27,-23.83 1.27,-23.83 ; 1.27,-19.35 2.27,-19.35 2.27,-18.75 1.27,-18.75 ; 1.27,-14.27 2.27,-14.27 2.27,-13.67 1.27,-13.67 ; 1.27,-9.19 2.27,-9.19 2.27,-8.59 1.27,-8.59 ; 1.27,-4.11 2.27,-4.11 2.27,-3.51 1.27,-3.51 ; 1.27,0.97 2.27,0.97 2.27,1.57 1.27,1.57 ; 1.27,6.05 2.27,6.05 2.27,6.65 1.27,6.65 ; 1.27,11.13 2.27,11.13 2.27,11.73 1.27,11.73 ; 1.27,16.21 2.27,16.21 2.27,16.81 1.27,16.81 ; 1.27,21.29 2.27,21.29 2.27,21.89 1.27,21.89 ; 1.27,26.37 2.27,26.37 2.27,26.97 1.27,26.97 ; 1.27,31.45 2.27,31.45 2.27,32.05 1.27,32.05 ; 1.27,36.53 2.27,36.53 2.27,37.13 1.27,37.13 ; 1.27,41.61 2.27,41.61 2.27,42.21 1.27,42.21 ; -1.27,-43.28 1.27,-43.28 1.27,42.645 0.635,43.28 -1.27,43.28 -1.27,-43.28
  text "'.Designator'" at 0.84,-4.047 h1
Top Courtyard:
  lines w0.254: -3.1,-43.8 3.1,-43.8 3.1,43.8 -3.1,43.8 -3.1,-43.8
Top Designator:
  text ".Designator" at -7.618,-0.508 h1.52

## PinSocket_1x35_P2.54mm_Horizontal [mm]
pads (35):
  rect 1.7x1.7 hole 1: 1(0,0)
  round 1.7 hole 1: 2(0,-2.54) 3(0,-5.08) 4(0,-7.62) 5(0,-10.16) 6(0,-12.7) 7(0,-15.24) 8(0,-17.78) 9(0,-20.32) 10(0,-22.86) 11(0,-25.4) 12(0,-27.94) 13(0,-30.48) 14(0,-33.02) 15(0,-35.56) 16(0,-38.1) 17(0,-40.64) 18(0,-43.18) 19(0,-45.72) 20(0,-48.26) 21(0,-50.8) 22(0,-53.34) 23(0,-55.88) 24(0,-58.42) 25(0,-60.96) 26(0,-63.5) 27(0,-66.04) 28(0,-68.58) 29(0,-71.12) 30(0,-73.66) 31(0,-76.2) 32(0,-78.74) 33(0,-81.28) 34(0,-83.82) 35(0,-86.36)
F.SilkS:
  lines w0.254: -10.09,-85.09 -1.46,-85.09 ; -10.09,-82.55 -1.46,-82.55 ; -10.09,-80.01 -1.46,-80.01 ; -10.09,-77.47 -1.46,-77.47 ; -10.09,-74.93 -1.46,-74.93 ; -10.09,-72.39 -1.46,-72.39 ; -10.09,-69.85 -1.46,-69.85 ; -10.09,-67.31 -1.46,-67.31 ; -10.09,-64.77 -1.46,-64.77 ; -10.09,-62.23 -1.46,-62.23 ; -10.09,-59.69 -1.46,-59.69 ; -10.09,-57.15 -1.46,-57.15 ; -10.09,-54.61 -1.46,-54.61 ; -10.09,-52.07 -1.46,-52.07 ; -10.09,-49.53 -1.46,-49.53 ; -10.09,-46.99 -1.46,-46.99 ; -10.09,-44.45 -1.46,-44.45 ; -10.09,-41.91 -1.46,-41.91 ; -10.09,-39.37 -1.46,-39.37 ; -10.09,-36.83 -1.46,-36.83 ; -10.09,-34.29 -1.46,-34.29 ; -10.09,-31.75 -1.46,-31.75 ; -10.09,-29.21 -1.46,-29.21 ; -10.09,-26.67 -1.46,-26.67 ; -10.09,-24.13 -1.46,-24.13 ; -10.09,-21.59 -1.46,-21.59 ; -10.09,-19.05 -1.46,-19.05 ; -10.09,-16.51 -1.46,-16.51 ; -10.09,-13.97 -1.46,-13.97 ; -10.09,-11.43 -1.46,-11.43 ; -10.09,-8.89 -1.46,-8.89 ; -10.09,-6.35 -1.46,-6.35 ; -10.09,-3.81 -1.46,-3.81 ; -10.09,-1.27 -1.46,-1.27 ; -10.09,-1.152 -1.46,-1.152 ; -10.09,-1.034 -1.46,-1.034 ; -10.09,-0.916 -1.46,-0.916 ; -10.09,-0.798 -1.46,-0.798 ; -10.09,-0.68 -1.46,-0.68 ; -10.09,-0.561 -1.46,-0.561 ; -10.09,-0.443 -1.46,-0.443 ; -10.09,-0.325 -1.46,-0.325 ; -10.09,-0.207 -1.46,-0.207 ; -10.09,-0.089 -1.46,-0.089 ; -10.09,0.029 -1.46,0.029 ; -10.09,0.147 -1.46,0.147 ; -10.09,0.265 -1.46,0.265 ; -10.09,0.383 -1.46,0.383 ; -10.09,0.501 -1.46,0.501 ; -10.09,0.62 -1.46,0.62 ; -10.09,0.738 -1.46,0.738 ; -10.09,0.856 -1.46,0.856 ; -10.09,0.974 -1.46,0.974 ; -10.09,1.092 -1.46,1.092 ; -10.09,1.21 -1.46,1.21 ; -1.46,-86.72 -1.05,-86.72 ; -1.46,-86 -1.05,-86 ; -1.46,-84.18 -1.05,-84.18 ; -1.46,-83.46 -1.05,-83.46 ; -1.46,-81.64 -1.05,-81.64 ; -1.46,-80.92 -1.05,-80.92 ; -1.46,-79.1 -1.05,-79.1 ; -1.46,-78.38 -1.05,-78.38 ; -1.46,-76.56 -1.05,-76.56 ; -1.46,-75.84 -1.05,-75.84 ; -1.46,-74.02 -1.05,-74.02 ; -1.46,-73.3 -1.05,-73.3 ; -1.46,-71.48 -1.05,-71.48 ; -1.46,-70.76 -1.05,-70.76 ; -1.46,-68.94 -1.05,-68.94 ; -1.46,-68.22 -1.05,-68.22 ; -1.46,-66.4 -1.05,-66.4 ; -1.46,-65.68 -1.05,-65.68 ; -1.46,-63.86 -1.05,-63.86 ; -1.46,-63.14 -1.05,-63.14 ; -1.46,-61.32 -1.05,-61.32 ; -1.46,-60.6 -1.05,-60.6 ; -1.46,-58.78 -1.05,-58.78 ; -1.46,-58.06 -1.05,-58.06 ; -1.46,-56.24 -1.05,-56.24 ; -1.46,-55.52 -1.05,-55.52 ; -1.46,-53.7 -1.05,-53.7 ; -1.46,-52.98 -1.05,-52.98 ; -1.46,-51.16 -1.05,-51.16 ; -1.46,-50.44 -1.05,-50.44 ; -1.46,-48.62 -1.05,-48.62 ; -1.46,-47.9 -1.05,-47.9 ; -1.46,-46.08 -1.05,-46.08 ; -1.46,-45.36 -1.05,-45.36 ; -1.46,-43.54 -1.05,-43.54 ; -1.46,-42.82 -1.05,-42.82 ; -1.46,-41 -1.05,-41 ; -1.46,-40.28 -1.05,-40.28 ; -1.46,-38.46 -1.05,-38.46 ; -1.46,-37.74 -1.05,-37.74 ; -1.46,-35.92 -1.05,-35.92 ; -1.46,-35.2 -1.05,-35.2 ; -1.46,-33.38 -1.05,-33.38 ; -1.46,-32.66 -1.05,-32.66 ; -1.46,-30.84 -1.05,-30.84 ; -1.46,-30.12 -1.05,-30.12 ; -1.46,-28.3 -1.05,-28.3 ; -1.46,-27.58 -1.05,-27.58 ; -1.46,-25.76 -1.05,-25.76 ; -1.46,-25.04 -1.05,-25.04 ; -1.46,-23.22 -1.05,-23.22 ; -1.46,-22.5 -1.05,-22.5 ; -1.46,-20.68 -1.05,-20.68 ; -1.46,-19.96 -1.05,-19.96 ; -1.46,-18.14 -1.05,-18.14 ; -1.46,-17.42 -1.05,-17.42 ; -1.46,-15.6 -1.05,-15.6 ; -1.46,-14.88 -1.05,-14.88 ; -1.46,-13.06 -1.05,-13.06 ; -1.46,-12.34 -1.05,-12.34 ; -1.46,-10.52 -1.05,-10.52 ; -1.46,-9.8 -1.05,-9.8 ; -1.46,-7.98 -1.05,-7.98 ; -1.46,-7.26 -1.05,-7.26 ; -1.46,-5.44 -1.05,-5.44 ; -1.46,-4.72 -1.05,-4.72 ; -1.46,-2.9 -1.05,-2.9 ; -1.46,-2.18 -1.05,-2.18 ; -1.46,-0.36 -1.11,-0.36 ; -1.46,0.36 -1.11,0.36 ; 0,1.33 1.11,1.33 1.11,0 ; -10.09,-87.69 -1.46,-87.69 -1.46,1.33 -10.09,1.33 -10.09,-87.69
Top Assembly:
  lines w0.254: -1.52,-86.66 0,-86.66 0,-86.06 -1.52,-86.06 ; -1.52,-84.12 0,-84.12 0,-83.52 -1.52,-83.52 ; -1.52,-81.58 0,-81.58 0,-80.98 -1.52,-80.98 ; -1.52,-79.04 0,-79.04 0,-78.44 -1.52,-78.44 ; -1.52,-76.5 0,-76.5 0,-75.9 -1.52,-75.9 ; -1.52,-73.96 0,-73.96 0,-73.36 -1.52,-73.36 ; -1.52,-71.42 0,-71.42 0,-70.82 -1.52,-70.82 ; -1.52,-68.88 0,-68.88 0,-68.28 -1.52,-68.28 ; -1.52,-66.34 0,-66.34 0,-65.74 -1.52,-65.74 ; -1.52,-63.8 0,-63.8 0,-63.2 -1.52,-63.2 ; -1.52,-61.26 0,-61.26 0,-60.66 -1.52,-60.66 ; -1.52,-58.72 0,-58.72 0,-58.12 -1.52,-58.12 ; -1.52,-56.18 0,-56.18 0,-55.58 -1.52,-55.58 ; -1.52,-53.64 0,-53.64 0,-53.04 -1.52,-53.04 ; -1.52,-51.1 0,-51.1 0,-50.5 -1.52,-50.5 ; -1.52,-48.56 0,-48.56 0,-47.96 -1.52,-47.96 ; -1.52,-46.02 0,-46.02 0,-45.42 -1.52,-45.42 ; -1.52,-43.48 0,-43.48 0,-42.88 -1.52,-42.88 ; -1.52,-40.94 0,-40.94 0,-40.34 -1.52,-40.34 ; -1.52,-38.4 0,-38.4 0,-37.8 -1.52,-37.8 ; -1.52,-35.86 0,-35.86 0,-35.26 -1.52,-35.26 ; -1.52,-33.32 0,-33.32 0,-32.72 -1.52,-32.72 ; -1.52,-30.78 0,-30.78 0,-30.18 -1.52,-30.18 ; -1.52,-28.24 0,-28.24 0,-27.64 -1.52,-27.64 ; -1.52,-25.7 0,-25.7 0,-25.1 -1.52,-25.1 ; -1.52,-23.16 0,-23.16 0,-22.56 -1.52,-22.56 ; -1.52,-20.62 0,-20.62 0,-20.02 -1.52,-20.02 ; -1.52,-18.08 0,-18.08 0,-17.48 -1.52,-17.48 ; -1.52,-15.54 0,-15.54 0,-14.94 -1.52,-14.94 ; -1.52,-13 0,-13 0,-12.4 -1.52,-12.4 ; -1.52,-10.46 0,-10.46 0,-9.86 -1.52,-9.86 ; -1.52,-7.92 0,-7.92 0,-7.32 -1.52,-7.32 ; -1.52,-5.38 0,-5.38 0,-4.78 -1.52,-4.78 ; -1.52,-2.84 0,-2.84 0,-2.24 -1.52,-2.24 ; -1.52,-0.3 0,-0.3 0,0.3 -1.52,0.3 ; -1.52,0.3 -1.52,-87.63 -10.03,-87.63 -10.03,1.27 -2.49,1.27 -1.52,0.3
  text "'.Designator'" at -4.935,-47.227 h1
Top Courtyard:
  lines w0.254: -10.55,-88.15 1.75,-88.15 1.75,1.75 -10.55,1.75 -10.55,-88.15
Top Designator:
  text ".Designator" at -12.018,-43.708 h1.52

## PinSocket_1x35_P2.54mm_Vertical [mm]
pads (35):
  rect 1.7x1.7 hole 1: 1(0,0)
  round 1.7 hole 1: 2(0,-2.54) 3(0,-5.08) 4(0,-7.62) 5(0,-10.16) 6(0,-12.7) 7(0,-15.24) 8(0,-17.78) 9(0,-20.32) 10(0,-22.86) 11(0,-25.4) 12(0,-27.94) 13(0,-30.48) 14(0,-33.02) 15(0,-35.56) 16(0,-38.1) 17(0,-40.64) 18(0,-43.18) 19(0,-45.72) 20(0,-48.26) 21(0,-50.8) 22(0,-53.34) 23(0,-55.88) 24(0,-58.42) 25(0,-60.96) 26(0,-63.5) 27(0,-66.04) 28(0,-68.58) 29(0,-71.12) 30(0,-73.66) 31(0,-76.2) 32(0,-78.74) 33(0,-81.28) 34(0,-83.82) 35(0,-86.36)
F.SilkS:
  lines w0.254: 0,1.33 1.33,1.33 1.33,0 ; -1.33,-87.69 1.33,-87.69 1.33,-1.27 -1.33,-1.27 -1.33,-87.69
Top Assembly:
  lines w0.254: -1.27,-87.63 1.27,-87.63 1.27,0.635 0.635,1.27 -1.27,1.27 -1.27,-87.63
  text "'.Designator'" at 0.84,-47.227 h1
Top Courtyard:
  lines w0.254: -1.8,-88.1 1.75,-88.1 1.75,1.8 -1.8,1.8 -1.8,-88.1
Top Designator:
  text ".Designator" at -7.643,-43.658 h1.52

## PinSocket_1x35_P2.54mm_Vertical_SMD_Pin1Left [mm]
pads (35):
  rect 1.9x1 smd: 1(-1.65,43.18) 2(1.65,40.64) 3(-1.65,38.1) 4(1.65,35.56) 5(-1.65,33.02) 6(1.65,30.48) 7(-1.65,27.94) 8(1.65,25.4) 9(-1.65,22.86) 10(1.65,20.32) 11(-1.65,17.78) 12(1.65,15.24) 13(-1.65,12.7) 14(1.65,10.16) 15(-1.65,7.62) 16(1.65,5.08) 17(-1.65,2.54) 18(1.65,0) 19(-1.65,-2.54) 20(1.65,-5.08) 21(-1.65,-7.62) 22(1.65,-10.16) 23(-1.65,-12.7) 24(1.65,-15.24) 25(-1.65,-17.78) 26(1.65,-20.32) 27(-1.65,-22.86) 28(1.65,-25.4) 29(-1.65,-27.94) 30(1.65,-30.48) 31(-1.65,-33.02) 32(1.65,-35.56) 33(-1.65,-38.1) 34(1.65,-40.64) 35(-1.65,-43.18)
F.SilkS:
  lines w0.254: -2.54,43.94 -1.33,43.94 -1.33,44.61 1.33,44.61 1.33,41.4 ; -1.33,-43.94 -1.33,-44.61 1.33,-44.61 1.33,-41.4 ; -1.33,-42.42 -1.33,-38.86 ; -1.33,-37.34 -1.33,-33.78 ; -1.33,-32.26 -1.33,-28.7 ; -1.33,-27.18 -1.33,-23.62 ; -1.33,-22.1 -1.33,-18.54 ; -1.33,-17.02 -1.33,-13.46 ; -1.33,-11.94 -1.33,-8.38 ; -1.33,-6.86 -1.33,-3.3 ; -1.33,-1.78 -1.33,1.78 ; -1.33,3.3 -1.33,6.86 ; -1.33,8.38 -1.33,11.94 ; -1.33,13.46 -1.33,17.02 ; -1.33,18.54 -1.33,22.1 ; -1.33,23.62 -1.33,27.18 ; -1.33,28.7 -1.33,32.26 ; -1.33,33.78 -1.33,37.34 ; -1.33,38.86 -1.33,42.42 ; 1.33,-39.88 1.33,-36.32 ; 1.33,-34.8 1.33,-31.24 ; 1.33,-29.72 1.33,-26.16 ; 1.33,-24.64 1.33,-21.08 ; 1.33,-19.56 1.33,-16 ; 1.33,-14.48 1.33,-10.92 ; 1.33,-9.4 1.33,-5.84 ; 1.33,-4.32 1.33,-0.76 ; 1.33,0.76 1.33,4.32 ; 1.33,5.84 1.33,9.4 ; 1.33,10.92 1.33,14.48 ; 1.33,16 1.33,19.56 ; 1.33,21.08 1.33,24.64 ; 1.33,26.16 1.33,29.72 ; 1.33,31.24 1.33,34.8 ; 1.33,36.32 1.33,39.88
Top Assembly:
  lines w0.254: -1.27,-43.48 -2.27,-43.48 -2.27,-42.88 -1.27,-42.88 ; -1.27,-38.4 -2.27,-38.4 -2.27,-37.8 -1.27,-37.8 ; -1.27,-33.32 -2.27,-33.32 -2.27,-32.72 -1.27,-32.72 ; -1.27,-28.24 -2.27,-28.24 -2.27,-27.64 -1.27,-27.64 ; -1.27,-23.16 -2.27,-23.16 -2.27,-22.56 -1.27,-22.56 ; -1.27,-18.08 -2.27,-18.08 -2.27,-17.48 -1.27,-17.48 ; -1.27,-13 -2.27,-13 -2.27,-12.4 -1.27,-12.4 ; -1.27,-7.92 -2.27,-7.92 -2.27,-7.32 -1.27,-7.32 ; -1.27,-2.84 -2.27,-2.84 -2.27,-2.24 -1.27,-2.24 ; -1.27,2.24 -2.27,2.24 -2.27,2.84 -1.27,2.84 ; -1.27,7.32 -2.27,7.32 -2.27,7.92 -1.27,7.92 ; -1.27,12.4 -2.27,12.4 -2.27,13 -1.27,13 ; -1.27,17.48 -2.27,17.48 -2.27,18.08 -1.27,18.08 ; -1.27,22.56 -2.27,22.56 -2.27,23.16 -1.27,23.16 ; -1.27,27.64 -2.27,27.64 -2.27,28.24 -1.27,28.24 ; -1.27,32.72 -2.27,32.72 -2.27,33.32 -1.27,33.32 ; -1.27,37.8 -2.27,37.8 -2.27,38.4 -1.27,38.4 ; -1.27,42.88 -2.27,42.88 -2.27,43.48 -1.27,43.48 ; 1.27,-40.94 2.27,-40.94 2.27,-40.34 1.27,-40.34 ; 1.27,-35.86 2.27,-35.86 2.27,-35.26 1.27,-35.26 ; 1.27,-30.78 2.27,-30.78 2.27,-30.18 1.27,-30.18 ; 1.27,-25.7 2.27,-25.7 2.27,-25.1 1.27,-25.1 ; 1.27,-20.62 2.27,-20.62 2.27,-20.02 1.27,-20.02 ; 1.27,-15.54 2.27,-15.54 2.27,-14.94 1.27,-14.94 ; 1.27,-10.46 2.27,-10.46 2.27,-9.86 1.27,-9.86 ; 1.27,-5.38 2.27,-5.38 2.27,-4.78 1.27,-4.78 ; 1.27,-0.3 2.27,-0.3 2.27,0.3 1.27,0.3 ; 1.27,4.78 2.27,4.78 2.27,5.38 1.27,5.38 ; 1.27,9.86 2.27,9.86 2.27,10.46 1.27,10.46 ; 1.27,14.94 2.27,14.94 2.27,15.54 1.27,15.54 ; 1.27,20.02 2.27,20.02 2.27,20.62 1.27,20.62 ; 1.27,25.1 2.27,25.1 2.27,25.7 1.27,25.7 ; 1.27,30.18 2.27,30.18 2.27,30.78 1.27,30.78 ; 1.27,35.26 2.27,35.26 2.27,35.86 1.27,35.86 ; 1.27,40.34 2.27,40.34 2.27,40.94 1.27,40.94 ; -1.27,-44.55 1.27,-44.55 1.27,44.55 -0.635,44.55 -1.27,43.915 -1.27,-44.55
  text "'.Designator'" at 0.84,-4.047 h1
Top Courtyard:
  lines w0.254: -3.1,-45.05 3.1,-45.05 3.1,45.05 -3.1,45.05 -3.1,-45.05
Top Designator:
  text ".Designator" at -7.618,-0.508 h1.52

## PinSocket_1x35_P2.54mm_Vertical_SMD_Pin1Right [mm]
pads (35):
  rect 1.9x1 smd: 1(1.65,43.18) 2(-1.65,40.64) 3(1.65,38.1) 4(-1.65,35.56) 5(1.65,33.02) 6(-1.65,30.48) 7(1.65,27.94) 8(-1.65,25.4) 9(1.65,22.86) 10(-1.65,20.32) 11(1.65,17.78) 12(-1.65,15.24) 13(1.65,12.7) 14(-1.65,10.16) 15(1.65,7.62) 16(-1.65,5.08) 17(1.65,2.54) 18(-1.65,0) 19(1.65,-2.54) 20(-1.65,-5.08) 21(1.65,-7.62) 22(-1.65,-10.16) 23(1.65,-12.7) 24(-1.65,-15.24) 25(1.65,-17.78) 26(-1.65,-20.32) 27(1.65,-22.86) 28(-1.65,-25.4) 29(1.65,-27.94) 30(-1.65,-30.48) 31(1.65,-33.02) 32(-1.65,-35.56) 33(1.65,-38.1) 34(-1.65,-40.64) 35(1.65,-43.18)
F.SilkS:
  lines w0.254: -1.33,-41.4 -1.33,-44.61 1.33,-44.61 1.33,-43.94 ; -1.33,-39.88 -1.33,-36.32 ; -1.33,-34.8 -1.33,-31.24 ; -1.33,-29.72 -1.33,-26.16 ; -1.33,-24.64 -1.33,-21.08 ; -1.33,-19.56 -1.33,-16 ; -1.33,-14.48 -1.33,-10.92 ; -1.33,-9.4 -1.33,-5.84 ; -1.33,-4.32 -1.33,-0.76 ; -1.33,0.76 -1.33,4.32 ; -1.33,5.84 -1.33,9.4 ; -1.33,10.92 -1.33,14.48 ; -1.33,16 -1.33,19.56 ; -1.33,21.08 -1.33,24.64 ; -1.33,26.16 -1.33,29.72 ; -1.33,31.24 -1.33,34.8 ; -1.33,36.32 -1.33,39.88 ; -1.33,41.4 -1.33,44.61 1.33,44.61 1.33,43.94 2.54,43.94 ; 1.33,-42.42 1.33,-38.86 ; 1.33,-37.34 1.33,-33.78 ; 1.33,-32.26 1.33,-28.7 ; 1.33,-27.18 1.33,-23.62 ; 1.33,-22.1 1.33,-18.54 ; 1.33,-17.02 1.33,-13.46 ; 1.33,-11.94 1.33,-8.38 ; 1.33,-6.86 1.33,-3.3 ; 1.33,-1.78 1.33,1.78 ; 1.33,3.3 1.33,6.86 ; 1.33,8.38 1.33,11.94 ; 1.33,13.46 1.33,17.02 ; 1.33,18.54 1.33,22.1 ; 1.33,23.62 1.33,27.18 ; 1.33,28.7 1.33,32.26 ; 1.33,33.78 1.33,37.34 ; 1.33,38.86 1.33,42.42
Top Assembly:
  lines w0.254: -1.27,-40.94 -2.27,-40.94 -2.27,-40.34 -1.27,-40.34 ; -1.27,-35.86 -2.27,-35.86 -2.27,-35.26 -1.27,-35.26 ; -1.27,-30.78 -2.27,-30.78 -2.27,-30.18 -1.27,-30.18 ; -1.27,-25.7 -2.27,-25.7 -2.27,-25.1 -1.27,-25.1 ; -1.27,-20.62 -2.27,-20.62 -2.27,-20.02 -1.27,-20.02 ; -1.27,-15.54 -2.27,-15.54 -2.27,-14.94 -1.27,-14.94 ; -1.27,-10.46 -2.27,-10.46 -2.27,-9.86 -1.27,-9.86 ; -1.27,-5.38 -2.27,-5.38 -2.27,-4.78 -1.27,-4.78 ; -1.27,-0.3 -2.27,-0.3 -2.27,0.3 -1.27,0.3 ; -1.27,4.78 -2.27,4.78 -2.27,5.38 -1.27,5.38 ; -1.27,9.86 -2.27,9.86 -2.27,10.46 -1.27,10.46 ; -1.27,14.94 -2.27,14.94 -2.27,15.54 -1.27,15.54 ; -1.27,20.02 -2.27,20.02 -2.27,20.62 -1.27,20.62 ; -1.27,25.1 -2.27,25.1 -2.27,25.7 -1.27,25.7 ; -1.27,30.18 -2.27,30.18 -2.27,30.78 -1.27,30.78 ; -1.27,35.26 -2.27,35.26 -2.27,35.86 -1.27,35.86 ; -1.27,40.34 -2.27,40.34 -2.27,40.94 -1.27,40.94 ; 1.27,-43.48 2.27,-43.48 2.27,-42.88 1.27,-42.88 ; 1.27,-38.4 2.27,-38.4 2.27,-37.8 1.27,-37.8 ; 1.27,-33.32 2.27,-33.32 2.27,-32.72 1.27,-32.72 ; 1.27,-28.24 2.27,-28.24 2.27,-27.64 1.27,-27.64 ; 1.27,-23.16 2.27,-23.16 2.27,-22.56 1.27,-22.56 ; 1.27,-18.08 2.27,-18.08 2.27,-17.48 1.27,-17.48 ; 1.27,-13 2.27,-13 2.27,-12.4 1.27,-12.4 ; 1.27,-7.92 2.27,-7.92 2.27,-7.32 1.27,-7.32 ; 1.27,-2.84 2.27,-2.84 2.27,-2.24 1.27,-2.24 ; 1.27,2.24 2.27,2.24 2.27,2.84 1.27,2.84 ; 1.27,7.32 2.27,7.32 2.27,7.92 1.27,7.92 ; 1.27,12.4 2.27,12.4 2.27,13 1.27,13 ; 1.27,17.48 2.27,17.48 2.27,18.08 1.27,18.08 ; 1.27,22.56 2.27,22.56 2.27,23.16 1.27,23.16 ; 1.27,27.64 2.27,27.64 2.27,28.24 1.27,28.24 ; 1.27,32.72 2.27,32.72 2.27,33.32 1.27,33.32 ; 1.27,37.8 2.27,37.8 2.27,38.4 1.27,38.4 ; 1.27,42.88 2.27,42.88 2.27,43.48 1.27,43.48 ; -1.27,-44.55 1.27,-44.55 1.27,43.915 0.635,44.55 -1.27,44.55 -1.27,-44.55
  text "'.Designator'" at 0.84,-4.047 h1
Top Courtyard:
  lines w0.254: -3.1,-45.05 3.1,-45.05 3.1,45.05 -3.1,45.05 -3.1,-45.05
Top Designator:
  text ".Designator" at -7.618,-0.508 h1.52

## PinSocket_1x36_P2.54mm_Horizontal [mm]
pads (36):
  rect 1.7x1.7 hole 1: 1(0,0)
  round 1.7 hole 1: 2(0,-2.54) 3(0,-5.08) 4(0,-7.62) 5(0,-10.16) 6(0,-12.7) 7(0,-15.24) 8(0,-17.78) 9(0,-20.32) 10(0,-22.86) 11(0,-25.4) 12(0,-27.94) 13(0,-30.48) 14(0,-33.02) 15(0,-35.56) 16(0,-38.1) 17(0,-40.64) 18(0,-43.18) 19(0,-45.72) 20(0,-48.26) 21(0,-50.8) 22(0,-53.34) 23(0,-55.88) 24(0,-58.42) 25(0,-60.96) 26(0,-63.5) 27(0,-66.04) 28(0,-68.58) 29(0,-71.12) 30(0,-73.66) 31(0,-76.2) 32(0,-78.74) 33(0,-81.28) 34(0,-83.82) 35(0,-86.36) 36(0,-88.9)
F.SilkS:
  lines w0.254: -10.09,-87.63 -1.46,-87.63 ; -10.09,-85.09 -1.46,-85.09 ; -10.09,-82.55 -1.46,-82.55 ; -10.09,-80.01 -1.46,-80.01 ; -10.09,-77.47 -1.46,-77.47 ; -10.09,-74.93 -1.46,-74.93 ; -10.09,-72.39 -1.46,-72.39 ; -10.09,-69.85 -1.46,-69.85 ; -10.09,-67.31 -1.46,-67.31 ; -10.09,-64.77 -1.46,-64.77 ; -10.09,-62.23 -1.46,-62.23 ; -10.09,-59.69 -1.46,-59.69 ; -10.09,-57.15 -1.46,-57.15 ; -10.09,-54.61 -1.46,-54.61 ; -10.09,-52.07 -1.46,-52.07 ; -10.09,-49.53 -1.46,-49.53 ; -10.09,-46.99 -1.46,-46.99 ; -10.09,-44.45 -1.46,-44.45 ; -10.09,-41.91 -1.46,-41.91 ; -10.09,-39.37 -1.46,-39.37 ; -10.09,-36.83 -1.46,-36.83 ; -10.09,-34.29 -1.46,-34.29 ; -10.09,-31.75 -1.46,-31.75 ; -10.09,-29.21 -1.46,-29.21 ; -10.09,-26.67 -1.46,-26.67 ; -10.09,-24.13 -1.46,-24.13 ; -10.09,-21.59 -1.46,-21.59 ; -10.09,-19.05 -1.46,-19.05 ; -10.09,-16.51 -1.46,-16.51 ; -10.09,-13.97 -1.46,-13.97 ; -10.09,-11.43 -1.46,-11.43 ; -10.09,-8.89 -1.46,-8.89 ; -10.09,-6.35 -1.46,-6.35 ; -10.09,-3.81 -1.46,-3.81 ; -10.09,-1.27 -1.46,-1.27 ; -10.09,-1.152 -1.46,-1.152 ; -10.09,-1.034 -1.46,-1.034 ; -10.09,-0.916 -1.46,-0.916 ; -10.09,-0.798 -1.46,-0.798 ; -10.09,-0.68 -1.46,-0.68 ; -10.09,-0.561 -1.46,-0.561 ; -10.09,-0.443 -1.46,-0.443 ; -10.09,-0.325 -1.46,-0.325 ; -10.09,-0.207 -1.46,-0.207 ; -10.09,-0.089 -1.46,-0.089 ; -10.09,0.029 -1.46,0.029 ; -10.09,0.147 -1.46,0.147 ; -10.09,0.265 -1.46,0.265 ; -10.09,0.383 -1.46,0.383 ; -10.09,0.501 -1.46,0.501 ; -10.09,0.62 -1.46,0.62 ; -10.09,0.738 -1.46,0.738 ; -10.09,0.856 -1.46,0.856 ; -10.09,0.974 -1.46,0.974 ; -10.09,1.092 -1.46,1.092 ; -10.09,1.21 -1.46,1.21 ; -1.46,-89.26 -1.05,-89.26 ; -1.46,-88.54 -1.05,-88.54 ; -1.46,-86.72 -1.05,-86.72 ; -1.46,-86 -1.05,-86 ; -1.46,-84.18 -1.05,-84.18 ; -1.46,-83.46 -1.05,-83.46 ; -1.46,-81.64 -1.05,-81.64 ; -1.46,-80.92 -1.05,-80.92 ; -1.46,-79.1 -1.05,-79.1 ; -1.46,-78.38 -1.05,-78.38 ; -1.46,-76.56 -1.05,-76.56 ; -1.46,-75.84 -1.05,-75.84 ; -1.46,-74.02 -1.05,-74.02 ; -1.46,-73.3 -1.05,-73.3 ; -1.46,-71.48 -1.05,-71.48 ; -1.46,-70.76 -1.05,-70.76 ; -1.46,-68.94 -1.05,-68.94 ; -1.46,-68.22 -1.05,-68.22 ; -1.46,-66.4 -1.05,-66.4 ; -1.46,-65.68 -1.05,-65.68 ; -1.46,-63.86 -1.05,-63.86 ; -1.46,-63.14 -1.05,-63.14 ; -1.46,-61.32 -1.05,-61.32 ; -1.46,-60.6 -1.05,-60.6 ; -1.46,-58.78 -1.05,-58.78 ; -1.46,-58.06 -1.05,-58.06 ; -1.46,-56.24 -1.05,-56.24 ; -1.46,-55.52 -1.05,-55.52 ; -1.46,-53.7 -1.05,-53.7 ; -1.46,-52.98 -1.05,-52.98 ; -1.46,-51.16 -1.05,-51.16 ; -1.46,-50.44 -1.05,-50.44 ; -1.46,-48.62 -1.05,-48.62 ; -1.46,-47.9 -1.05,-47.9 ; -1.46,-46.08 -1.05,-46.08 ; -1.46,-45.36 -1.05,-45.36 ; -1.46,-43.54 -1.05,-43.54 ; -1.46,-42.82 -1.05,-42.82 ; -1.46,-41 -1.05,-41 ; -1.46,-40.28 -1.05,-40.28 ; -1.46,-38.46 -1.05,-38.46 ; -1.46,-37.74 -1.05,-37.74 ; -1.46,-35.92 -1.05,-35.92 ; -1.46,-35.2 -1.05,-35.2 ; -1.46,-33.38 -1.05,-33.38 ; -1.46,-32.66 -1.05,-32.66 ; -1.46,-30.84 -1.05,-30.84 ; -1.46,-30.12 -1.05,-30.12 ; -1.46,-28.3 -1.05,-28.3 ; -1.46,-27.58 -1.05,-27.58 ; -1.46,-25.76 -1.05,-25.76 ; -1.46,-25.04 -1.05,-25.04 ; -1.46,-23.22 -1.05,-23.22 ; -1.46,-22.5 -1.05,-22.5 ; -1.46,-20.68 -1.05,-20.68 ; -1.46,-19.96 -1.05,-19.96 ; -1.46,-18.14 -1.05,-18.14 ; -1.46,-17.42 -1.05,-17.42 ; -1.46,-15.6 -1.05,-15.6 ; -1.46,-14.88 -1.05,-14.88 ; -1.46,-13.06 -1.05,-13.06 ; -1.46,-12.34 -1.05,-12.34 ; -1.46,-10.52 -1.05,-10.52 ; -1.46,-9.8 -1.05,-9.8 ; -1.46,-7.98 -1.05,-7.98 ; -1.46,-7.26 -1.05,-7.26 ; -1.46,-5.44 -1.05,-5.44 ; -1.46,-4.72 -1.05,-4.72 ; -1.46,-2.9 -1.05,-2.9 ; -1.46,-2.18 -1.05,-2.18 ; -1.46,-0.36 -1.11,-0.36 ; -1.46,0.36 -1.11,0.36 ; 0,1.33 1.11,1.33 1.11,0 ; -10.09,-90.23 -1.46,-90.23 -1.46,1.33 -10.09,1.33 -10.09,-90.23
Top Assembly:
  lines w0.254: -1.52,-89.2 0,-89.2 0,-88.6 -1.52,-88.6 ; -1.52,-86.66 0,-86.66 0,-86.06 -1.52,-86.06 ; -1.52,-84.12 0,-84.12 0,-83.52 -1.52,-83.52 ; -1.52,-81.58 0,-81.58 0,-80.98 -1.52,-80.98 ; -1.52,-79.04 0,-79.04 0,-78.44 -1.52,-78.44 ; -1.52,-76.5 0,-76.5 0,-75.9 -1.52,-75.9 ; -1.52,-73.96 0,-73.96 0,-73.36 -1.52,-73.36 ; -1.52,-71.42 0,-71.42 0,-70.82 -1.52,-70.82 ; -1.52,-68.88 0,-68.88 0,-68.28 -1.52,-68.28 ; -1.52,-66.34 0,-66.34 0,-65.74 -1.52,-65.74 ; -1.52,-63.8 0,-63.8 0,-63.2 -1.52,-63.2 ; -1.52,-61.26 0,-61.26 0,-60.66 -1.52,-60.66 ; -1.52,-58.72 0,-58.72 0,-58.12 -1.52,-58.12 ; -1.52,-56.18 0,-56.18 0,-55.58 -1.52,-55.58 ; -1.52,-53.64 0,-53.64 0,-53.04 -1.52,-53.04 ; -1.52,-51.1 0,-51.1 0,-50.5 -1.52,-50.5 ; -1.52,-48.56 0,-48.56 0,-47.96 -1.52,-47.96 ; -1.52,-46.02 0,-46.02 0,-45.42 -1.52,-45.42 ; -1.52,-43.48 0,-43.48 0,-42.88 -1.52,-42.88 ; -1.52,-40.94 0,-40.94 0,-40.34 -1.52,-40.34 ; -1.52,-38.4 0,-38.4 0,-37.8 -1.52,-37.8 ; -1.52,-35.86 0,-35.86 0,-35.26 -1.52,-35.26 ; -1.52,-33.32 0,-33.32 0,-32.72 -1.52,-32.72 ; -1.52,-30.78 0,-30.78 0,-30.18 -1.52,-30.18 ; -1.52,-28.24 0,-28.24 0,-27.64 -1.52,-27.64 ; -1.52,-25.7 0,-25.7 0,-25.1 -1.52,-25.1 ; -1.52,-23.16 0,-23.16 0,-22.56 -1.52,-22.56 ; -1.52,-20.62 0,-20.62 0,-20.02 -1.52,-20.02 ; -1.52,-18.08 0,-18.08 0,-17.48 -1.52,-17.48 ; -1.52,-15.54 0,-15.54 0,-14.94 -1.52,-14.94 ; -1.52,-13 0,-13 0,-12.4 -1.52,-12.4 ; -1.52,-10.46 0,-10.46 0,-9.86 -1.52,-9.86 ; -1.52,-7.92 0,-7.92 0,-7.32 -1.52,-7.32 ; -1.52,-5.38 0,-5.38 0,-4.78 -1.52,-4.78 ; -1.52,-2.84 0,-2.84 0,-2.24 -1.52,-2.24 ; -1.52,-0.3 0,-0.3 0,0.3 -1.52,0.3 ; -1.52,0.3 -1.52,-90.17 -10.03,-90.17 -10.03,1.27 -2.49,1.27 -1.52,0.3
  text "'.Designator'" at -4.935,-48.497 h1
Top Courtyard:
  lines w0.254: -10.55,-90.65 1.75,-90.65 1.75,1.8 -10.55,1.8 -10.55,-90.65
Top Designator:
  text ".Designator" at -12.018,-44.933 h1.52

## PinSocket_1x36_P2.54mm_Vertical [mm]
pads (36):
  rect 1.7x1.7 hole 1: 1(0,0)
  round 1.7 hole 1: 2(0,-2.54) 3(0,-5.08) 4(0,-7.62) 5(0,-10.16) 6(0,-12.7) 7(0,-15.24) 8(0,-17.78) 9(0,-20.32) 10(0,-22.86) 11(0,-25.4) 12(0,-27.94) 13(0,-30.48) 14(0,-33.02) 15(0,-35.56) 16(0,-38.1) 17(0,-40.64) 18(0,-43.18) 19(0,-45.72) 20(0,-48.26) 21(0,-50.8) 22(0,-53.34) 23(0,-55.88) 24(0,-58.42) 25(0,-60.96) 26(0,-63.5) 27(0,-66.04) 28(0,-68.58) 29(0,-71.12) 30(0,-73.66) 31(0,-76.2) 32(0,-78.74) 33(0,-81.28) 34(0,-83.82) 35(0,-86.36) 36(0,-88.9)
F.SilkS:
  lines w0.254: 0,1.33 1.33,1.33 1.33,0 ; -1.33,-90.23 1.33,-90.23 1.33,-1.27 -1.33,-1.27 -1.33,-90.23
Top Assembly:
  lines w0.254: -1.27,-90.17 1.27,-90.17 1.27,0.635 0.635,1.27 -1.27,1.27 -1.27,-90.17
  text "'.Designator'" at 0.84,-48.497 h1
Top Courtyard:
  lines w0.254: -1.8,-90.65 1.75,-90.65 1.75,1.8 -1.8,1.8 -1.8,-90.65
Top Designator:
  text ".Designator" at -7.643,-44.933 h1.52